# Altium integrated library ICs$.IntLib: 6 symbols
Pins are listed as number, name and electrical type; pins without a type are passive.

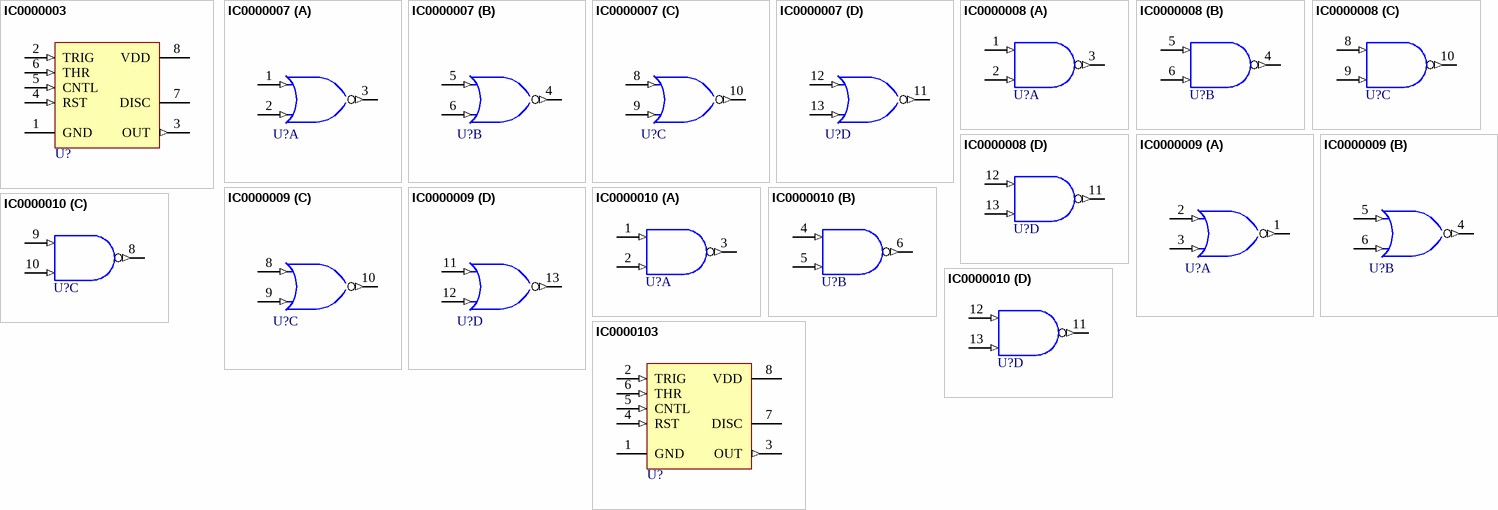
[diagram p0: symbols IC0000003 to IC0000103]

## IC0000003
designator U?, comment 555  (value not drawn)
IC 555 TIMER TH; Manufactuer: ST Micicroelectronics; Manufacturer-PN: NE555N; UoA Stock#: IC0000003; Assembly Method: Through hole; Item Type: Item; Path: ece/ts/Lists/Stock Inventory; Value: 555; Size/Package: DIP8; Supplier1: Element14; Supplier1-PN: 1467742; Category: IC; Status: Active
footprint ECE-DIP8TH
pins: 1 GND (power), 2 TRIG (in), 3 OUT (out), 4 RST (in), 5 CNTL (in), 6 THR (in), 7 DISC (oc), 8 VDD (power)

## IC0000007
designator U?, comment CD4001  (value not drawn)
IC NOR 2 INPUT DIP14; Manufactuer: Texas Instruments; Manufacturer-PN: CD4001BE; UoA Stock#: IC0000007; Assembly Method: Through hole; Item Type: Item; Path: ece/ts/Lists/Stock Inventory; Value: CD4001; Size/Package: DIP14; Supplier1: Digikey; Supplier1-PN: 296-2028-5-ND; Supplier2: Element14; Supplier2-PN: 1106096; Category: IC; Status: Active
footprint ECE-DIP14TH
pins on every part: 7 GND (power) hidden to GND, 14 VDD (power) hidden to VDD
part A pins: 1 A (in), 2 B (in), 3 J (out)
part B pins: 4 J (out), 5 A (in), 6 B (in)
part C pins: 8 A (in), 9 B (in), 10 J (out)
part D pins: 11 J (out), 12 A (in), 13 B (in)

## IC0000008
designator U?, comment CD4011  (value not drawn)
IC NAND 2 INPUT DIP14; Manufactuer: Texas Instruments; Manufacturer-PN: CD4011BE; UoA Stock#: IC0000008; Assembly Method: Through hole; Item Type: Item; Path: ece/ts/Lists/Stock Inventory; Value: CD4011; Size/Package: DIP14; Supplier1: Digikey; Supplier1-PN: 296-2031-5-ND; Supplier2: Element14; Supplier2-PN: 1106098; Category: IC; Status: Active
footprint ECE-DIP14TH
pins on every part: 7 GND (power) hidden to GND, 14 VDD (power) hidden to VDD
part A pins: 1 A (in), 2 B (in), 3 J (out)
part B pins: 4 J (out), 5 A (in), 6 B (in)
part C pins: 8 A (in), 9 F (in), 10 J (out)
part D pins: 11 J (out), 12 A (in), 13 B (in)

## IC0000009
designator U?, comment 74HC02  (value not drawn)
IC TTL NOR 2 INPUT DIP14; Manufactuer: Texas Instruments; Manufacturer-PN: SN74HC02N; UoA Stock#: IC0000009; Assembly Method: Through hole; Item Type: Item; Path: ece/ts/Lists/Stock Inventory; Value: 74HC02; Size/Package: DIP14; Supplier1: Digikey; Supplier1-PN: 296-1564-5-ND; Supplier2: Element14; Supplier2-PN: 380350; Category: IC; Status: Active
footprint ECE-DIP14TH
pins on every part: 7 GND (power) hidden to GND, 14 VCC (power) hidden to VCC
part A pins: 1 Y (out), 2 A (in), 3 B (in)
part B pins: 4 Y (out), 5 A (in), 6 B (in)
part C pins: 8 A (in), 9 B (in), 10 Y (out)
part D pins: 11 A (in), 12 B (in), 13 Y (out)

## IC0000010
designator U?, comment 74HC00N  (value not drawn)
IC TTL 2 INPUT NANAD DIP14; Manufactuer: Texas Instruments; Manufacturer-PN: SN74HC00N; UoA Stock#: IC0000010; Assembly Method: Through hole; Item Type: Item; Path: ece/ts/Lists/Stock Inventory; Value: 74HC00N; Size/Package: DIP14; Supplier1: Digikey; Supplier1-PN: 296-1563-ND; Supplier2: Element14; Supplier2-PN: 380349; Category: IC; Status: Active
footprint ECE-DIP14TH
pins on every part: 7 GND (power) hidden to GND, 14 VCC (power) hidden to VCC
part A pins: 1 A (in), 2 B (in), 3 Y (out)
part B pins: 4 A (in), 5 B (in), 6 Y (out)
part C pins: 8 Y (out), 9 A (in), 10 B (in)
part D pins: 11 Y (out), 12 A (in), 13 B (in)

## IC0000103
designator U?, comment NA555DR  (value not drawn)
IC TIMER 555 100KHz SM; Manufactuer: Texas Instruments; UoA Stock#: IC0000103; Assembly Method: Surface Mount; Item Type: Item; Path: ece/ts/Lists/Stock Inventory; Value: NA555DR; Size/Package: SOIC8; Manufacturer-PN: NA555DR; Supplier1: Digikey; Supplier1-PN: 296-21752-6-ND; Component Type: SO8-555; Category: IC; Status: Active
footprint ECE-SO8
pins: 1 GND (power), 2 TRIG (in), 3 OUT (out), 4 RST (in), 5 CNTL (in), 6 THR (in), 7 DISC (oc), 8 VDD (power)